# EAGLE library part THS3091DDAR (library opamp-jqi)
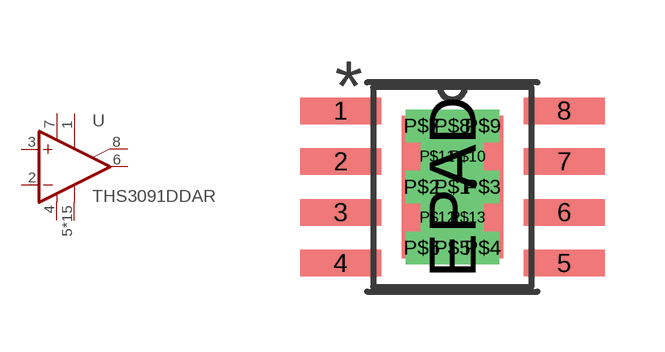
[diagram p6: symbol with the pads of DDA8_2P28X2P28; footprint DDA8_2P28X2P28]

Designator prefix U

## THS3091DDAR (BUILT_BY: EMA_UL_Team; MANUFACTURER: Texas Instruments; MANUFACTURER_PART_NUMBER: THS3091DDAR; VENDOR: Texas Instruments)  [DDA8_2P28X2P28]
1  ON1  pas
2  -IN  in
3  +IN  in
4  V-  pwr
5  OPT  pas
6  OUT  out
7  V+  pwr
8  ON2  pas
EPAD  OPT  pas
P$1  OPT  pas
P$2  OPT  pas
P$3  OPT  pas
P$4  OPT  pas
P$5  OPT  pas
P$6  OPT  pas
P$7  OPT  pas
P$8  OPT  pas
P$9  OPT  pas
P$10  OPT  pas
P$11  OPT  pas
P$12  OPT  pas
P$13  OPT  pas

## Footprint DDA8_2P28X2P28 (pad centres in mm)
smd 2.032 x 0.66: 1 -2.794,1.905; 2 -2.794,0.635; 3 -2.794,-0.635; 4 -2.794,-1.905; 5 2.794,-1.905; 6 2.794,-0.635; 7 2.794,0.635; 8 2.794,1.905
smd 2.54 x 3.556: EPAD 0,0
drill 0.305 square: P$1 0,0; P$2 -0.762,0; P$3 0.762,0; P$4 0.762,-1.524; P$5 0,-1.524; P$6 -0.762,-1.524; P$7 -0.762,1.524; P$8 0,1.524; P$9 0.762,1.524; P$10 0.381,0.762; P$11 -0.381,0.762; P$12 -0.381,-0.762; P$13 0.381,-0.762